# Altium footprint library dc преобразователи.PcbLib: 5 footprints
Each footprint in its own frame and in the unit in brackets; x right, y up, seen from the top. Pads: shape width x height; smd on the part's side, far side on the other; paste and mask are expansions set on the pad; w line width, h text height; cw(c..) or ccw(c..) is an arc to the next point about the centre after c.
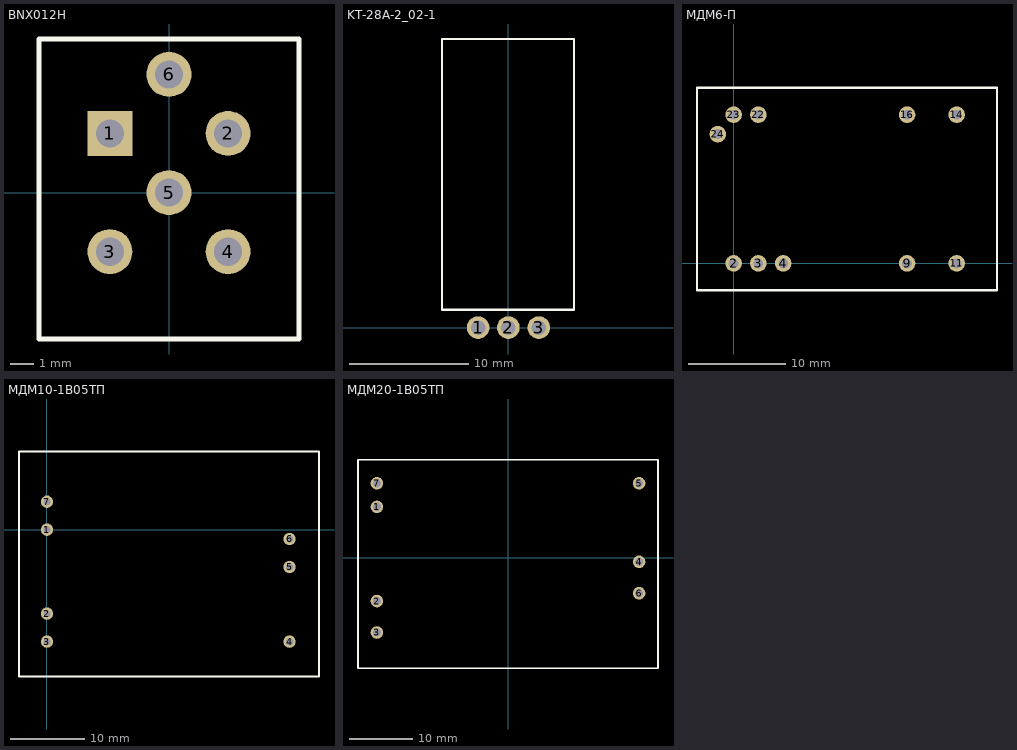
[diagram p0: the footprints below, top view; thin cyan lines are the x and y axes]

## BNX012H [mm]
pads (6):
  rect 1.9x1.9 hole 1.2: 1(-2.5,2.5)
  round 1.9 hole 1.2: 2(2.5,2.5) 3(-2.5,-2.5) 4(2.5,-2.5) 5(0,0) 6(0,5)
Top Overlay:
  lines w0.2: -5.5,-6.2 -5.5,6.5 5.5,6.5 5.5,-6.2 -5.5,-6.2
3D body "BNX012-01.STEP": height 8, standoff -4, extent -5.5,-6 5.5,6

## KT-28A-2_02-1 [mm]
pads (3):
  round 1.9 hole 1.2: 1(-2.537,0) 2(-0.012,0) 3(2.538,0)
Top Overlay:
  lines w0.2: -5.561,1.5 -5.561,24.157 5.439,24.157 ; -5.512,1.5 5.488,1.5 5.488,24.157
3D body "KT-28A-2_02-1.STEP": height 5.15, standoff -4, extent -5.401,-0.475 5.401,23.9

## МДМ6-П [mm]
pads (10):
  round 1.7 hole 1: 2(0,0) 3(2.54,0) 4(5.08,0) 9(17.78,0) 11(22.86,0) 14(22.86,15.24) 16(17.78,15.24) 22(2.54,15.24) 23(0,15.24) 24(-1.62,13.25)
Top Overlay:
  lines w0.254: -3.75,-2.75 27,-2.75 27,18 -3.75,18 -3.75,-2.75
3D body "МДМ6П.STEP": height 10.21, standoff -3.99, extent -3.55,-2.55 26.65,17.65

## МДМ10-1В05ТП [mm]
pads (7):
  round 1.65 hole 1: 1(0,0) 2(0,-11.25) 3(0,-15) 4(32.5,-15) 5(32.5,-5) 6(32.5,-1.25) 7(0,3.75)
Top Overlay:
  lines w0.254: -3.75,-19.7 -3.75,10.5 36.45,10.5 36.45,-19.7 -3.75,-19.7
3D body "МДМ10-1В05ТП.STEP": height 13.7, standoff -2.5, extent -3.85,-19.6 36.35,10.6

## МДМ20-1В05ТП [mm]
pads (7):
  round 2 hole 1.3: 1(-20.875,8.125) 2(-20.875,-6.875) 3(-20.875,-11.875) 4(20.875,-0.625) 5(20.875,11.875) 6(20.875,-5.625) 7(-20.875,11.875)
Top Overlay:
  lines w0.254: -23.875,-17.575 23.875,-17.575 23.875,15.625 -23.875,15.625 -23.875,-17.575
3D body "МДМ20-1В05ТП.STEP": height 10.5, standoff -3.7, extent -23.875,-17.525 23.825,15.675